# EAGLE library part STM32F41X-176BGA (library Pygmy)
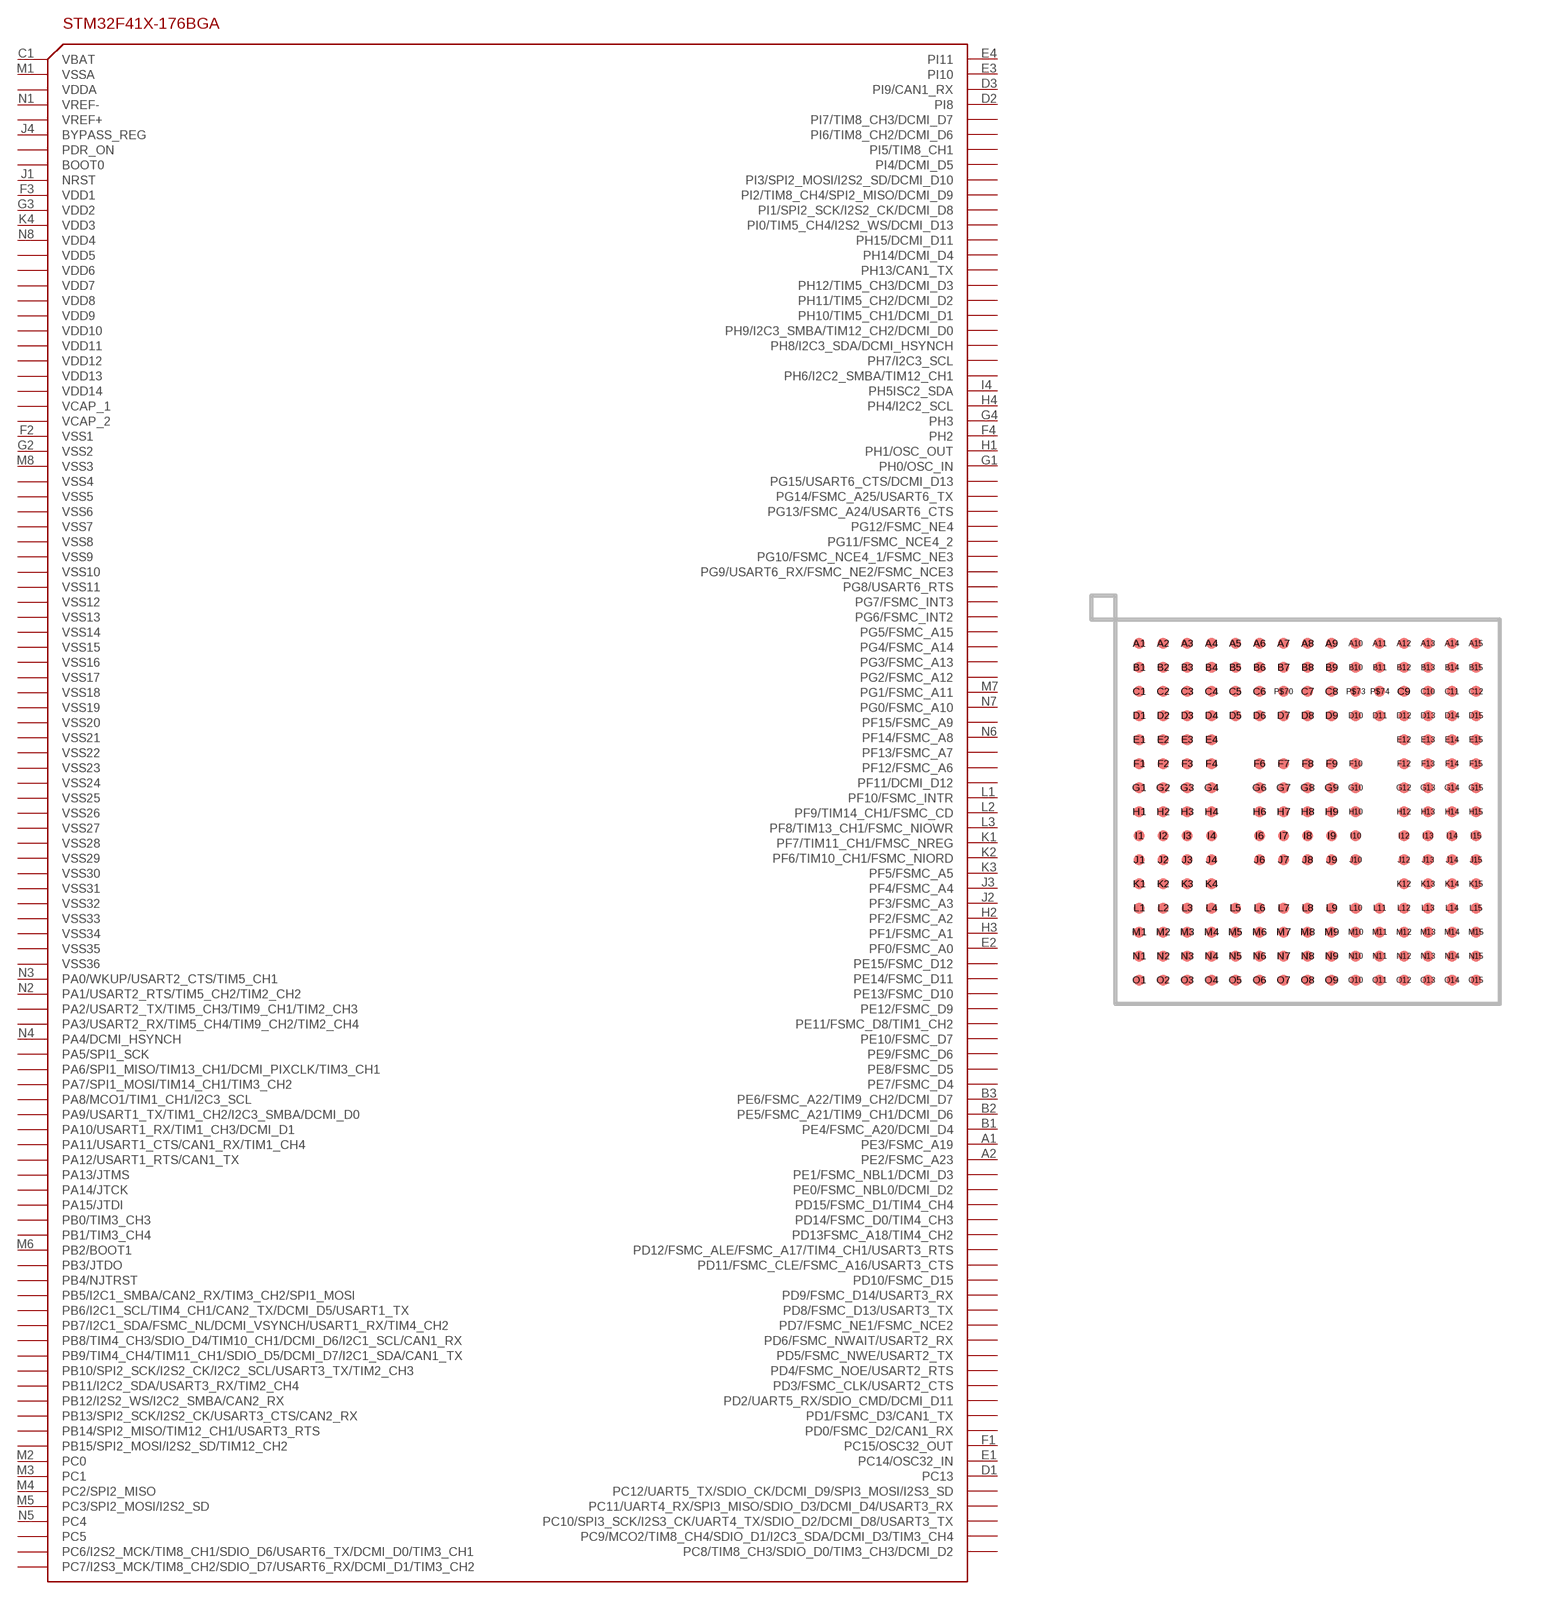
[diagram p62: symbol with the pads of STM32F41X-176BGA; footprint STM32F41X-176BGA]

Designator prefix -

## STM32F41X-176BGA  [STM32F41X-176BGA]
A1  PE3/FSMC_A19
A2  PE2/FSMC_A23
B1  PE4/FSMC_A20/DCMI_D4
B2  PE5/FSMC_A21/TIM9_CH1/DCMI_D6
B3  PE6/FSMC_A22/TIM9_CH2/DCMI_D7
C1  VBAT
D1  PC13
D2  PI8
D3  PI9/CAN1_RX
E1  PC14/OSC32_IN
E2  PF0/FSMC_A0
E3  PI10
E4  PI11
F1  PC15/OSC32_OUT
F2  VSS1
F3  VDD1
F4  PH2
G1  PH0/OSC_IN
G2  VSS2
G3  VDD2
G4  PH3
H1  PH1/OSC_OUT
H2  PF2/FSMC_A2
H3  PF1/FSMC_A1
H4  PH4/I2C2_SCL
I4  PH5ISC2_SDA
J1  NRST
J2  PF3/FSMC_A3
J3  PF4/FSMC_A4
J4  BYPASS_REG
K1  PF7/TIM11_CH1/FMSC_NREG
K2  PF6/TIM10_CH1/FSMC_NIORD
K3  PF5/FSMC_A5
K4  VDD3
L1  PF10/FSMC_INTR
L2  PF9/TIM14_CH1/FSMC_CD
L3  PF8/TIM13_CH1/FSMC_NIOWR
M1  VSSA
M2  PC0
M3  PC1
M4  PC2/SPI2_MISO
M5  PC3/SPI2_MOSI/I2S2_SD
M6  PB2/BOOT1
M7  PG1/FSMC_A11
M8  VSS3
N1  VREF-
N2  PA1/USART2_RTS/TIM5_CH2/TIM2_CH2
N3  PA0/WKUP/USART2_CTS/TIM5_CH1
N4  PA4/DCMI_HSYNCH
N5  PC4
N6  PF14/FSMC_A8
N7  PG0/FSMC_A10
N8  VDD4

## Footprint STM32F41X-176BGA (pad centres in mm)
smd 0.3 x 0.3: A1 -4.55,4.55; A2 -3.9,4.55; A3 -3.25,4.55; A4 -2.6,4.55; A5 -1.95,4.55; A6 -1.3,4.55; A7 -0.65,4.55; A8 0,4.55; A9 0.65,4.55; A10 1.3,4.55; A11 1.95,4.55; A12 2.6,4.55; A13 3.25,4.55; A14 3.9,4.55; A15 4.55,4.55; B1 -4.55,3.9; B2 -3.9,3.9; B3 -3.25,3.9; B4 -2.6,3.9; B5 -1.95,3.9; B6 -1.3,3.9; B7 -0.65,3.9; B8 0,3.9; B9 0.65,3.9; B10 1.3,3.9; B11 1.95,3.9; B12 2.6,3.9; B13 3.25,3.9; B14 3.9,3.9; B15 4.55,3.9; C1 -4.55,3.25; C2 -3.9,3.25; C3 -3.25,3.25; C4 -2.6,3.25; C5 -1.95,3.25; C6 -1.3,3.25; C7 0,3.25; C8 0.65,3.25; C9 2.6,3.25; C10 3.25,3.25; C11 3.9,3.25; C12 4.55,3.25; D1 -4.55,2.6; D2 -3.9,2.6; D3 -3.25,2.6; D4 -2.6,2.6; D5 -1.95,2.6; D6 -1.3,2.6; D7 -0.65,2.6; D8 0,2.6; D9 0.65,2.6; D10 1.3,2.6; D11 1.95,2.6; D12 2.6,2.6; D13 3.25,2.6; D14 3.9,2.6; D15 4.55,2.6; E1 -4.55,1.95; E2 -3.9,1.95; E3 -3.25,1.95; E4 -2.6,1.95; E12 2.6,1.95; E13 3.25,1.95; E14 3.9,1.95; E15 4.55,1.95; F1 -4.55,1.3; F2 -3.9,1.3; F3 -3.25,1.3; F4 -2.6,1.3; F6 -1.3,1.3; F7 -0.65,1.3; F8 0,1.3; F9 0.65,1.3; F10 1.3,1.3; F12 2.6,1.3; F13 3.25,1.3; F14 3.9,1.3; F15 4.55,1.3; G1 -4.55,0.65; G2 -3.9,0.65; G3 -3.25,0.65; G4 -2.6,0.65; G6 -1.3,0.65; G7 -0.65,0.65; G8 0,0.65; G9 0.65,0.65; G10 1.3,0.65; G12 2.6,0.65; G13 3.25,0.65; G14 3.9,0.65; G15 4.55,0.65; H1 -4.55,0; H2 -3.9,0; H3 -3.25,0; H4 -2.6,0; H6 -1.3,0; H7 -0.65,0; H8 0,0; H9 0.65,0; H10 1.3,0; H12 2.6,0; H13 3.25,0; H14 3.9,0; H15 4.55,0; I1 -4.55,-0.65; I2 -3.9,-0.65; I3 -3.25,-0.65; I4 -2.6,-0.65; I6 -1.3,-0.65; I7 -0.65,-0.65; I8 0,-0.65; I9 0.65,-0.65; I10 1.3,-0.65; I12 2.6,-0.65; I13 3.25,-0.65; I14 3.9,-0.65; I15 4.55,-0.65; J1 -4.55,-1.3; J2 -3.9,-1.3; J3 -3.25,-1.3; J4 -2.6,-1.3; J6 -1.3,-1.3; J7 -0.65,-1.3; J8 0,-1.3; J9 0.65,-1.3; J10 1.3,-1.3; J12 2.6,-1.3; J13 3.25,-1.3; J14 3.9,-1.3; J15 4.55,-1.3; K1 -4.55,-1.95; K2 -3.9,-1.95; K3 -3.25,-1.95; K4 -2.6,-1.95; K12 2.6,-1.95; K13 3.25,-1.95; K14 3.9,-1.95; K15 4.55,-1.95; L1 -4.55,-2.6; L2 -3.9,-2.6; L3 -3.25,-2.6; L4 -2.6,-2.6; L5 -1.95,-2.6; L6 -1.3,-2.6; L7 -0.65,-2.6; L8 0,-2.6; L9 0.65,-2.6; L10 1.3,-2.6; L11 1.95,-2.6; L12 2.6,-2.6; L13 3.25,-2.6; L14 3.9,-2.6; L15 4.55,-2.6; M1 -4.55,-3.25; M2 -3.9,-3.25; M3 -3.25,-3.25; M4 -2.6,-3.25; M5 -1.95,-3.25; M6 -1.3,-3.25; M7 -0.65,-3.25; M8 0,-3.25; M9 0.65,-3.25; M10 1.3,-3.25; M11 1.95,-3.25; M12 2.6,-3.25; M13 3.25,-3.25; M14 3.9,-3.25; M15 4.55,-3.25; N1 -4.55,-3.9; N2 -3.9,-3.9; N3 -3.25,-3.9; N4 -2.6,-3.9; N5 -1.95,-3.9; N6 -1.3,-3.9; N7 -0.65,-3.9; N8 0,-3.9; N9 0.65,-3.9; N10 1.3,-3.9; N11 1.95,-3.9; N12 2.6,-3.9; N13 3.25,-3.9; N14 3.9,-3.9; N15 4.55,-3.9; O1 -4.55,-4.55; O2 -3.9,-4.55; O3 -3.25,-4.55; O4 -2.6,-4.55; O5 -1.95,-4.55; O6 -1.3,-4.55; O7 -0.65,-4.55; O8 0,-4.55; O9 0.65,-4.55; O10 1.3,-4.55; O11 1.95,-4.55; O12 2.6,-4.55; O13 3.25,-4.55; O14 3.9,-4.55; O15 4.55,-4.55; P$70 -0.65,3.25; P$73 1.3,3.25; P$74 1.95,3.25